# Altium schematic symbol library SCH - MCU - STM32 - ST MICROELECTRONICS STM32L010K4TX LQFP32.SchLib: 1 symbol
Pins are listed as number, name and electrical type; pins without a type are passive.

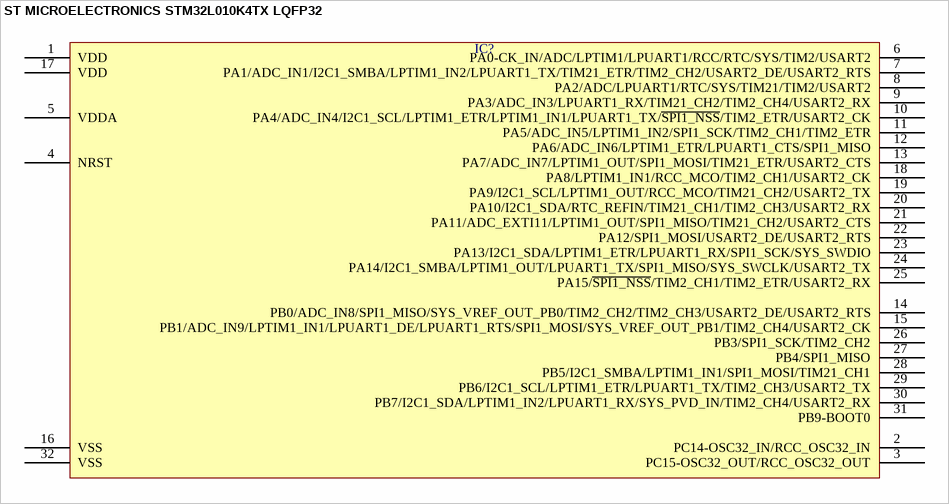
[diagram p0: symbol ST MICROELECTRONICS STM32L010K4TX LQFP32]

## ST MICROELECTRONICS STM32L010K4TX LQFP32
designator IC?  (value not drawn)
pins: 1 VDD, 2 PC14-OSC32_IN/RCC_OSC32_IN, 3 PC15-OSC32_OUT/RCC_OSC32_OUT, 4 NRST, 5 VDDA, 6 PA0-CK_IN/ADC/LPTIM1/LPUART1/RCC/RTC/SYS/TIM2/USART2, 7 PA1/ADC_IN1/I2C1_SMBA/LPTIM1_IN2/LPUART1_TX/TIM21_ETR/TIM2_CH2/USART2_DE/USART2_RTS, 8 PA2/ADC/LPUART1/RTC/SYS/TIM21/TIM2/USART2, 9 PA3/ADC_IN3/LPUART1_RX/TIM21_CH2/TIM2_CH4/USART2_RX, 10 PA4/ADC_IN4/I2C1_SCL/LPTIM1_ETR/LPTIM1_IN1/LPUART1_TX/~{SPI1_NSS}/TIM2_ETR/USART2_CK, 11 PA5/ADC_IN5/LPTIM1_IN2/SPI1_SCK/TIM2_CH1/TIM2_ETR, 12 PA6/ADC_IN6/LPTIM1_ETR/LPUART1_CTS/SPI1_MISO, 13 PA7/ADC_IN7/LPTIM1_OUT/SPI1_MOSI/TIM21_ETR/USART2_CTS, 14 PB0/ADC_IN8/SPI1_MISO/SYS_VREF_OUT_PB0/TIM2_CH2/TIM2_CH3/USART2_DE/USART2_RTS, 15 PB1/ADC_IN9/LPTIM1_IN1/LPUART1_DE/LPUART1_RTS/SPI1_MOSI/SYS_VREF_OUT_PB1/TIM2_CH4/USART2_CK, 16 VSS, 17 VDD, 18 PA8/LPTIM1_IN1/RCC_MCO/TIM2_CH1/USART2_CK, 19 PA9/I2C1_SCL/LPTIM1_OUT/RCC_MCO/TIM21_CH2/USART2_TX, 20 PA10/I2C1_SDA/RTC_REFIN/TIM21_CH1/TIM2_CH3/USART2_RX, 21 PA11/ADC_EXTI11/LPTIM1_OUT/SPI1_MISO/TIM21_CH2/USART2_CTS, 22 PA12/SPI1_MOSI/USART2_DE/USART2_RTS, 23 PA13/I2C1_SDA/LPTIM1_ETR/LPUART1_RX/SPI1_SCK/SYS_SWDIO, 24 PA14/I2C1_SMBA/LPTIM1_OUT/LPUART1_TX/SPI1_MISO/SYS_SWCLK/USART2_TX, 25 PA15/~{SPI1_NSS}/TIM2_CH1/TIM2_ETR/USART2_RX, 26 PB3/SPI1_SCK/TIM2_CH2, 27 PB4/SPI1_MISO, 28 PB5/I2C1_SMBA/LPTIM1_IN1/SPI1_MOSI/TIM21_CH1, 29 PB6/I2C1_SCL/LPTIM1_ETR/LPUART1_TX/TIM2_CH3/USART2_TX, 30 PB7/I2C1_SDA/LPTIM1_IN2/LPUART1_RX/SYS_PVD_IN/TIM2_CH4/USART2_RX, 31 PB9-BOOT0, 32 VSS